# Altium schematic symbol library TBP01R1-508-04BE.SchLib: 1 symbol
Pins are listed as number, name and electrical type; pins without a type are passive.

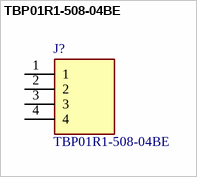
[diagram p0: symbol TBP01R1-508-04BE]

## TBP01R1-508-04BE
designator J?
2~24 Poles, Pluggable, Receptacle, Horizontal, 5.08 Pitch, Terminal Block Connector; Manufacturer_Name: Same Sky; Geometry.Height: 8.9mm; Mouser Part Number: 490-TBP01R1-508-04BE; Mouser Price/Stock: https://www.mouser.co.uk/ProductDetail/Same-Sky/TBP01R1-508-04BE?qs=PzGy0jfpSMtbuigPwCNi2Q%3D%3D; Manufacturer_Part_Number: TBP01R1-508-04BE; Datasheet Link: https://www.sameskydevices.com/product/resource/supplyframepdf/tbp01r1-508.pdf
footprint TBP01R150804BE
pins: 1, 2, 3, 4